# Altium footprint library PcbLib1.PcbLib: 28 footprints (part 1 of 2)
Each footprint in its own frame and in the unit in brackets; x right, y up, seen from the top. Pads: shape width x height; smd on the part's side, far side on the other; paste and mask are expansions set on the pad; w line width, h text height; cw(c..) or ccw(c..) is an arc to the next point about the centre after c.
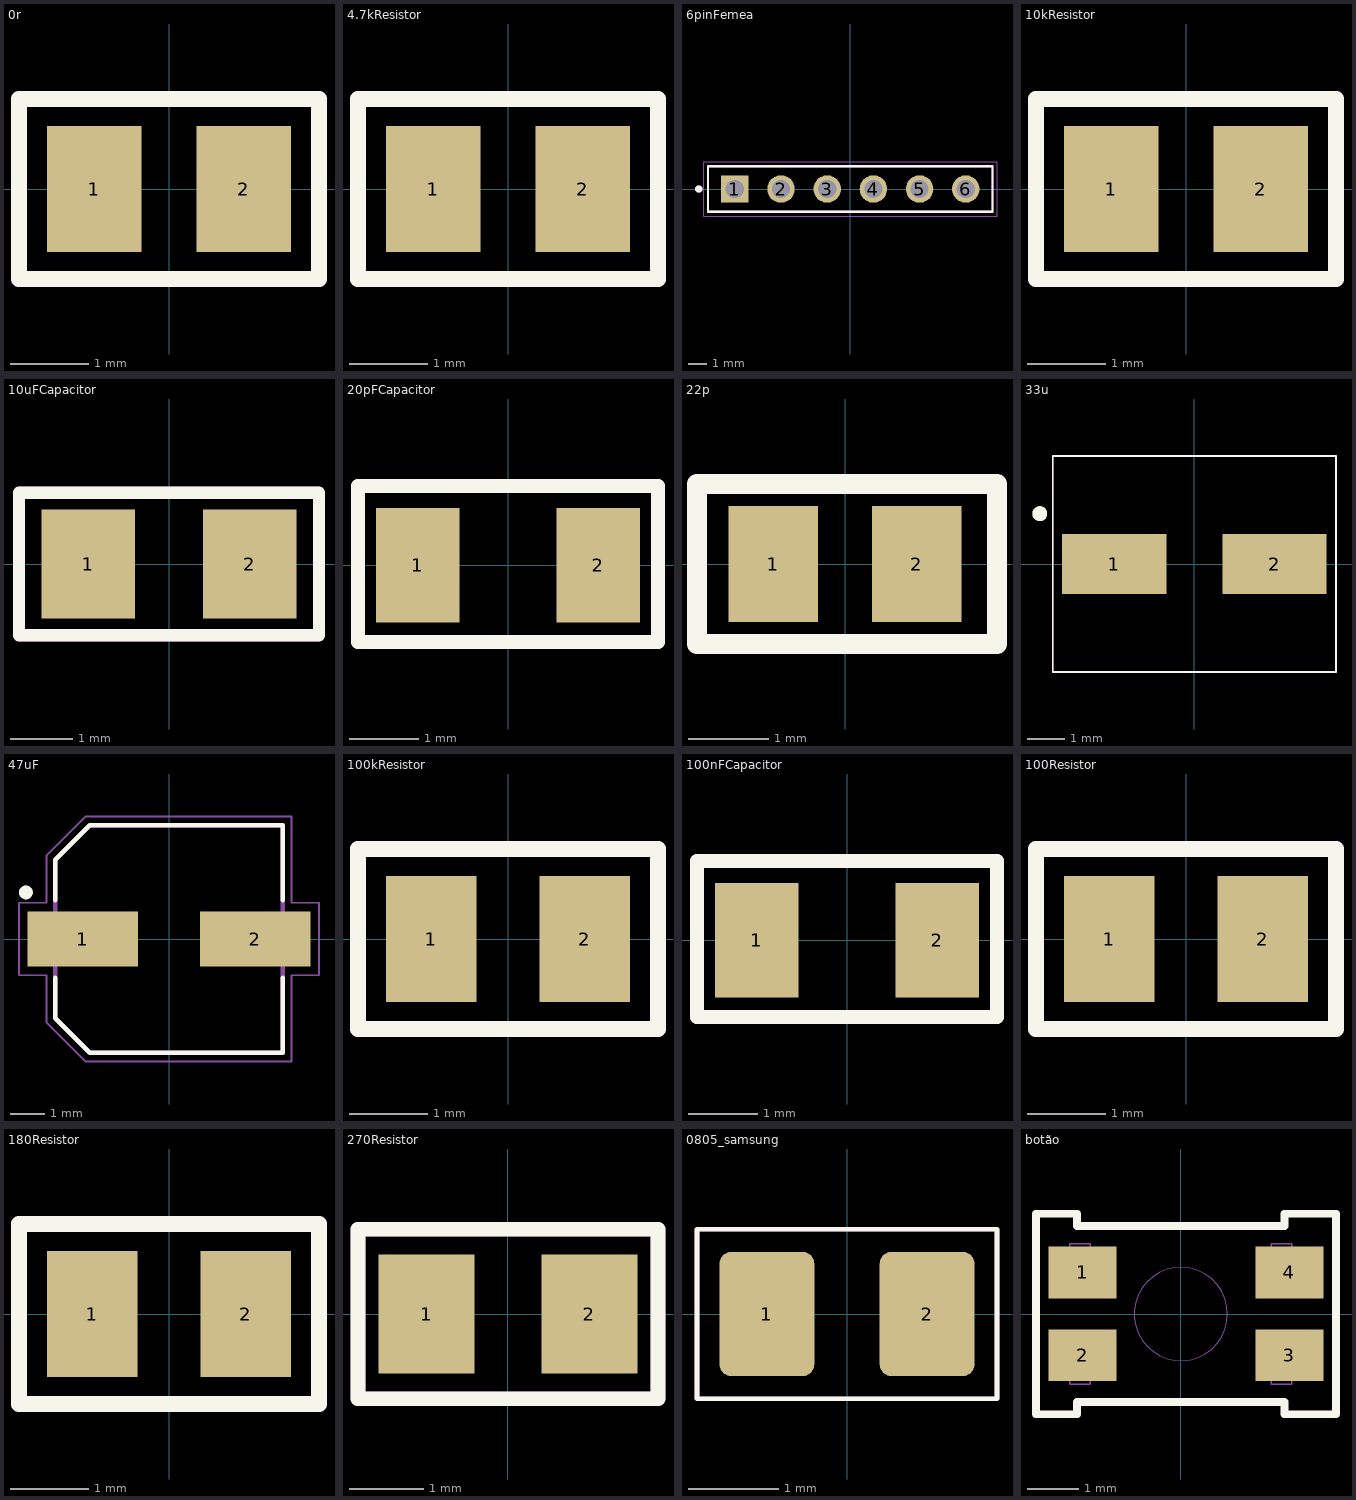
[diagram p0: the footprints below, top view; thin cyan lines are the x and y axes]

## 0r [mm]
pads (2):
  rect 1.2x1.6 smd: 1(-0.95,0) 2(0.95,0)
Top Overlay:
  lines w0.2: -1.905,-1.143 -1.905,1.143 ; -1.905,-1.143 1.905,-1.143 ; -1.905,-1.143 -1.905,1.143 ; -1.905,-1.143 1.905,-1.143 ; -1.905,1.143 1.905,1.143 ; -1.905,1.143 1.905,1.143 ; 1.905,-1.143 1.905,1.143 ; 1.905,-1.143 1.905,1.143
Mechanical 29:
  lines w0.2: -1.905,-1.143 -1.905,1.143 1.905,1.143 1.905,-1.143 -1.905,-1.143
  text ".Designator" at -1.351,-0.483 h0.7
3D body "MCU 0805.stp": height 0.46, standoff 0.01, extent -1,-0.635 1,0.615

## 4.7kResistor [mm]
pads (2):
  rect 1.2x1.6 smd: 1(-0.95,0) 2(0.95,0)
Top Overlay:
  lines w0.2: -1.905,-1.143 1.905,-1.143 ; -1.905,-1.143 -1.905,1.143 ; -1.905,-1.143 1.905,-1.143 ; -1.905,-1.143 -1.905,1.143 ; -1.905,1.143 1.905,1.143 ; -1.905,1.143 1.905,1.143 ; 1.905,-1.143 1.905,1.143 ; 1.905,-1.143 1.905,1.143
Mechanical 29:
  lines w0.2: -1.905,-1.143 1.905,-1.143 1.905,1.143 -1.905,1.143 -1.905,-1.143
  text ".Designator" at -1.351,-0.483 h0.7
3D body "MCU 0805.stp": height 0.46, standoff 0.01, extent -1,-0.635 1,0.615

## 6pinFemea [mm]
pads (6):
  rect 1.508x1.508 / inner round 1.508 / far side rect 1.508x1.508 hole 1: 1(-6.35,0)
  round 1.508 hole 1: 2(-3.81,0) 3(-1.27,0) 4(1.27,0) 5(3.81,0) 6(6.35,0)
Top Overlay:
  circle w0.2: c-8.33,0 r0.1
  lines w0.127: -7.82,-1.25 7.82,-1.25 7.82,1.25 -7.82,1.25 -7.82,-1.25
Mechanical 13:
  circle w0.2: c-8.33,0 r0.1
  lines w0.127: -7.82,-1.25 7.82,-1.25 7.82,1.25 -7.82,1.25 -7.82,-1.25
Mechanical 15:
  lines w0.05: -8.07,-1.5 8.07,-1.5 8.07,1.5 -8.07,1.5 -8.07,-1.5
Mechanical 29:
  circle w0.2: c-8.33,0 r0.1
  lines w0.127: -7.82,-1.25 7.82,-1.25 7.82,1.25 -7.82,1.25 -7.82,-1.25
  text ".Designator" at -2.9,-0.167 h0.7
3D body "m20-7820646.stp": height 8.51, standoff -2.99, extent -7.82,-1.3 7.82,1.2

## 10kResistor [mm]
pads (2):
  rect 1.2x1.6 smd: 1(-0.95,0) 2(0.95,0)
Top Overlay:
  lines w0.2: -1.905,-1.143 -1.905,1.143 ; -1.905,-1.143 1.905,-1.143 ; -1.905,-1.143 -1.905,1.143 ; -1.905,-1.143 1.905,-1.143 ; -1.905,1.143 1.905,1.143 ; -1.905,1.143 1.905,1.143 ; 1.905,-1.143 1.905,1.143 ; 1.905,-1.143 1.905,1.143
Mechanical 29:
  lines w0.2: -1.905,-1.143 -1.905,1.143 1.905,1.143 1.905,-1.143 -1.905,-1.143
  text ".Designator" at -1.351,-0.483 h0.7
3D body "MCU 0805.stp": height 0.46, standoff 0.01, extent -1,-0.635 1,0.615

## 10uFCapacitor [mm]
pads (2):
  rect 1.5x1.75 smd: 1(-1.3,0) 2(1.3,0)
Top Overlay:
  lines w0.2: -2.413,-1.143 -2.413,1.143 2.413,1.143 2.413,-1.143 -2.413,-1.143
Mechanical 29:
  lines w0.2: -2.413,-1.143 -2.413,1.143 2.413,1.143 2.413,-1.143 -2.413,-1.143
  text ".Designator" at -2.113,-0.61 h0.7
3D body "CL21A106KOQNNNE.STEP": height 1.26, standoff 0.01, extent -1,-0.714 1,0.686

## 20pFCapacitor [mm]
pads (2):
  rect 1.2x1.65 smd: 1(-1.3,0) 2(1.3,0)
Top Overlay:
  lines w0.2: -2.159,-1.103 2.159,-1.103 2.159,1.143 -2.159,1.143 -2.159,-1.103
Mechanical 29:
  lines w0.2: -2.159,-1.103 2.159,-1.103 2.159,1.143 -2.159,1.143 -2.159,-1.103
  text ".Designator" at -1.859,-0.57 h0.7
3D body "CL21B104KBCNNNC.STEP": height 1.26, standoff 0.01, extent -1,-0.508 1,0.442

## 22p [mil]
pads (2):
  rect 44x57 smd paste+0 mask+0: 1(-35.31,0) 2(35.31,0)
Top Overlay:
  lines w10: -72.83,-39.37 74.8,-39.37 74.8,39.37 -62.99,39.37 -72.83,39.37 -72.83,-39.37
Mechanical 29:
  lines w10: -72.83,-39.37 74.8,-39.37 74.8,39.37 -62.99,39.37 -72.83,39.37 -72.83,-39.37
  text ".Designator" at -37.4,-16.41 h27.56
3D body "CAP_CC0805_YAG.step": height 57.01, standoff 0, extent -43.31,-28.5 43.31,28.5

## 33u [mm]
pads (2):
  rect 2.8x1.6 smd: 1(-2.15,0) 2(2.15,0)
Top Overlay:
  circle w0.2: c-4.15,1.35 r0.1
  lines w0.05: -3.8,-2.9 -3.8,-1.05 -3.8,1.05 -3.8,2.9 3.8,2.9 3.8,1.05 3.8,-1.05 3.8,-2.9 -3.8,-2.9
Mechanical 29:
  circle w0.2: c-4.15,1.35 r0.1
  lines w0.05: -3.8,-2.9 -3.8,-1.05 -3.8,1.05 -3.8,2.9 3.8,2.9 3.8,1.05 3.8,-1.05 3.8,-2.9 -3.8,-2.9
3D body "step_temp.STEP": height 5.8, standoff 0, extent -3,-2.65 3,2.65

## 47uF [mm]
pads (2):
  rect 3.2x1.6 smd: 1(-2.5,0) 2(2.5,0)
Top Overlay:
  circle w0.2: c-4.15,1.35 r0.1
  lines w0.127: -3.3,-1.12 -3.3,-2.3 -2.3,-3.3 3.3,-3.3 3.3,-1.12 ; -3.3,1.12 -3.3,2.3 -2.3,3.3 3.3,3.3 3.3,1.12
Mechanical 13:
  circle w0.2: c-4.15,1.35 r0.1
  lines w0.127: -3.3,-2.3 -2.3,-3.3 3.3,-3.3 3.3,3.3 -2.3,3.3 -3.3,2.3 -3.3,-2.3
Mechanical 29:
  lines w0.05: -4.35,-1.05 -4.35,1.05 -3.55,1.05 -3.55,2.425 -2.425,3.55 3.55,3.55 3.55,1.05 4.35,1.05 4.35,-1.05 3.55,-1.05 3.55,-3.55 -2.425,-3.55 -3.55,-2.425 -3.55,-1.05 -4.35,-1.05
  text ".Designator" at -1.746,-0.238 h1.52
3D body "step_temp.STEP": height 5.8, standoff 0, extent -3.65,-3.3 3.65,3.3

## 100kResistor [mm]
pads (2):
  rect 1.15x1.6 smd: 1(-0.975,0) 2(0.975,0)
Top Overlay:
  lines w0.2: -1.905,-1.143 1.905,-1.143 1.905,1.143 -1.905,1.143 -1.905,-1.143
Mechanical 29:
  lines w0.2: -1.905,-1.143 1.905,-1.143 1.905,1.143 -1.905,1.143 -1.905,-1.143
  text ".Designator" at -1.605,-0.61 h0.7
3D body "CRCW0805100RFKEA.STEP": height 0.51, standoff 0.01, extent -1,-0.625 1,0.625

## 100nFCapacitor [mm]
pads (2):
  rect 1.2x1.65 smd: 1(-1.3,0) 2(1.3,0)
Top Overlay:
  lines w0.2: -2.159,-1.103 -2.159,1.143 2.159,1.143 2.159,-1.103 -2.159,-1.103
Mechanical 29:
  lines w0.2: -2.159,-1.103 -2.159,1.143 2.159,1.143 2.159,-1.103 -2.159,-1.103
  text ".Designator" at -1.859,-0.57 h0.7
3D body "CL21B104KBCNNNC.STEP": height 1.26, standoff 0.01, extent -1,-0.508 1,0.442

## 100Resistor [mm]
pads (2):
  rect 1.15x1.6 smd: 1(-0.975,0) 2(0.975,0)
Top Overlay:
  lines w0.2: -1.905,-1.143 1.905,-1.143 1.905,1.143 -1.905,1.143 -1.905,-1.143
Mechanical 29:
  lines w0.2: -1.905,-1.143 1.905,-1.143 1.905,1.143 -1.905,1.143 -1.905,-1.143
  text ".Designator" at -1.605,-0.61 h0.7
3D body "CRCW0805100RFKEA.STEP": height 0.51, standoff 0.01, extent -1,-0.625 1,0.625

## 180Resistor [mm]
pads (2):
  rect 1.15x1.6 smd: 1(-0.975,0) 2(0.975,0)
Top Overlay:
  lines w0.2: -1.905,-1.143 1.905,-1.143 1.905,1.143 -1.905,1.143 -1.905,-1.143
Mechanical 29:
  lines w0.2: -1.905,-1.143 1.905,-1.143 1.905,1.143 -1.905,1.143 -1.905,-1.143
  text ".Designator" at -1.605,-0.61 h0.7
3D body "CRCW0805100RFKEA.STEP": height 0.51, standoff 0.01, extent -1,-0.625 1,0.625

## 270Resistor [mm]
pads (2):
  rect 1.3x1.6 smd: 1(-1.1,0) 2(1.1,0)
Top Overlay:
  lines w0.2: -2.025,-1.143 2.025,-1.143 2.025,-0.572 2.025,0.572 2.025,1.143 -2.025,1.143 -2.025,0.572 -2.025,-0.572 -2.025,-1.143
Mechanical 29:
  lines w0.2: -2.025,-1.143 2.025,-1.143 2.025,-0.572 2.025,0.572 2.025,1.143 -2.025,1.143 -2.025,0.572 -2.025,-0.572 -2.025,-1.143
  text ".Designator" at -1.605,-0.61 h0.7
3D body "CRCW0805100RFKEA.STEP": height 0.51, standoff 0.01, extent -1,-0.625 1,0.625

## 0805_samsung [mm]
pads (2):
  rrect25% 1.05x1.38 smd paste+0 mask+0.102: 1(-0.888,0) 2(0.888,0)
Top Overlay:
  lines w0.05: -1.663,-0.94 1.663,-0.94 1.663,0.94 -1.663,0.94 -1.663,-0.94
Mechanical 29:
  lines w0.05: -1.663,-0.94 1.663,-0.94 1.663,0.94 -1.663,0.94 -1.663,-0.94
  text ".Designator" at -0.55,-0.117 h0.7
3D body "step_temp.STEP": height 0.95, standoff 0, extent -1,-0.625 1,0.625

## botão [mm]
pads (4):
  rect 1.321x1 smd paste+0 mask+0: 1(-1.9,0.803) 2(-1.9,-0.8) 3(2.1,-0.8) 4(2.1,0.803)
Top Overlay:
  lines w0.152: -2.8,-1.939 -2.007,-1.939 -2.007,-1.702 2.007,-1.702 2.007,-1.939 3,-1.939 3,1.939 2.007,1.939 2.007,1.702 -2.007,1.702 -2.007,1.939 -2.8,1.939 -2.8,-1.939
Mechanical 13:
  circle w0: c0,0 r0.902
  lines w0.025: -2.146,-1.355 -2.146,-0.745 -1.753,-0.745 -1.753,-1.355 -2.146,-1.355 ; -2.146,0.745 -2.146,1.355 -1.753,1.355 -1.753,0.745 -2.146,0.745 ; 1.753,-1.355 1.753,-0.745 2.146,-0.745 2.146,-1.355 1.753,-1.355 ; 1.753,0.745 1.753,1.355 2.146,1.355 2.146,0.745 1.753,0.745
Mechanical 29:
  text ".Designator" at -1.946,-0.638 h1.52
3D body "evpaa202k.stp": height 1.71, standoff 0.01, extent -2.175,-1.559 2.125,1.55